# Altium schematic symbol library Modules.SchLib: 34 symbols
Pins are listed as number, name and electrical type; pins without a type are passive.

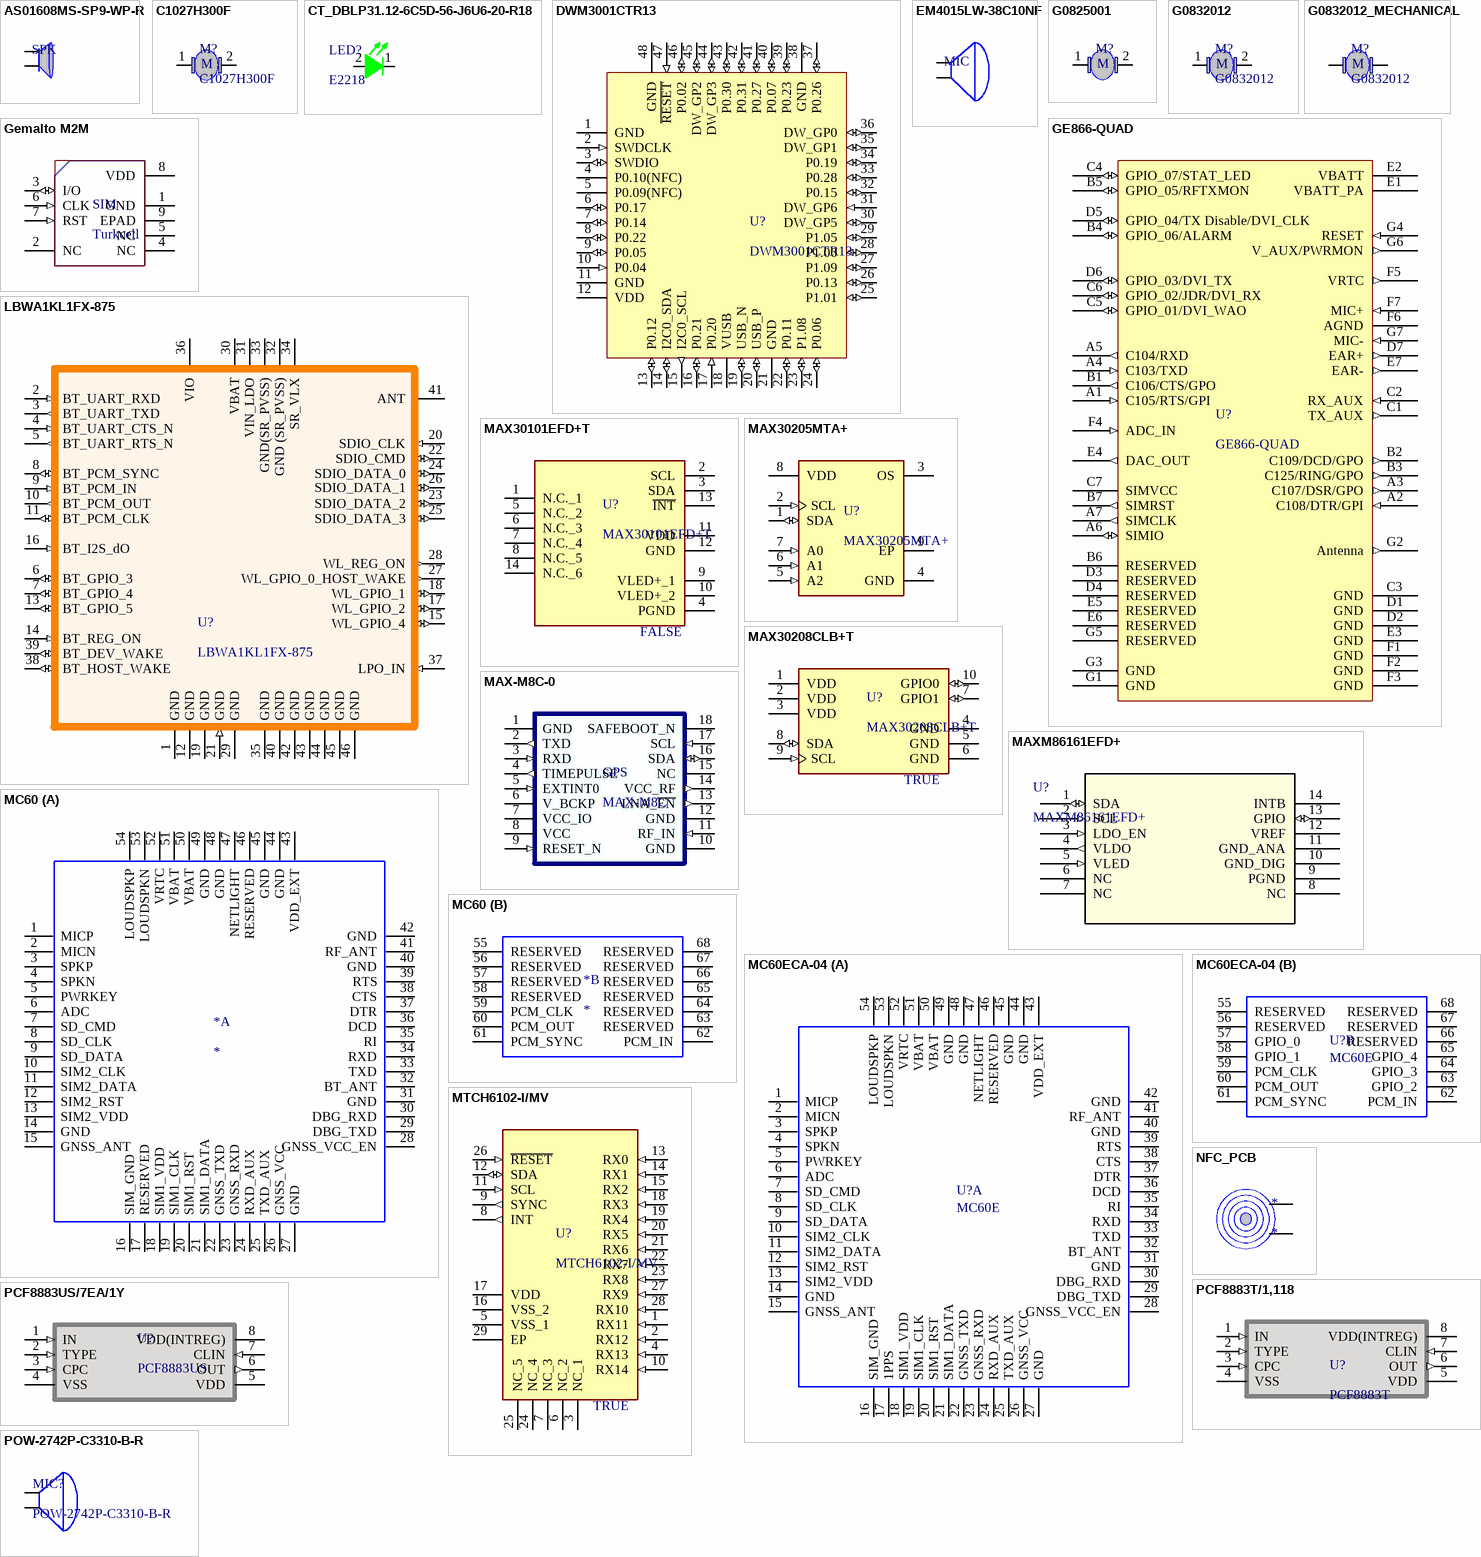
[diagram p0: symbols AS01608MS-SP9-WP-R to POW-2742P-C3310-B-R]

## AS01608MS-SP9-WP-R
designator SPK  (value not drawn)
SPEAKER .7W 8 OHM 89 DB 850 HZ; Manufacturer: PUI Audio, Inc.; Frequency - Self Resonant: 850Hz; Efficiency - dBA: 89.00; Efficiency - Type: Sensitivity; Port Location: Top; Shape: Rectangular; Material - Cone: Polyimide (PI); Material - Magnet: Nd-Fe-B; Ingress Protection: IP67 - Dust Tight, Waterproof; Supplier 1: Digi-Key; Manufacturer Part Number: AS01608MS-SP9-WP-R; RoHS: RoHS Compliant; Category: Audio Products; Stock: 974; Pricing: 1=2.65, 10=2.12, 100=1.749, 500=1.59, 1000=1.378 (USD); Part Status: Active; Technology: Magnetic; Type: Receiver; Efficiency - Testing: -; Ratings: -; Termination: Solder Pads; Size / Dimension: 0.630" L x 0.354" W (16.00mm x 9.00mm); Height - Seated (Max): 0.098" (2.50mm); ComponentLink1URL: http://www.puiaudio.com/pdf/AS01608MS-SP9-WP-R.pdf; ComponentLink1Description: http://www.puiaudio.com/pdf/AS01608MS-SP9-WP-R.pdf; Supplier Part Number 1: 668-1605-ND
footprint AS01608MS-SP9-WP-R
pins: 1 SPK-, 2 SPK+

## C1027H300F
designator M?
footprint C1027H300F (Vibration Motor)
pins: 1 V+, 2 V+
text: M

## CT_DBLP31.12-6C5D-56-J6U6-20-R18
designator LED?, comment E2218
SMD Green 536nm Firefly E2218; Manufacturer_Name: OSRAM; Manufacturer_Part_Number: CT DBLP31.12-6C5D-56-J6U6-20-R18; Manufacturer: Osram Opto; Datasheet Link: https://componentsearchengine.com//CT DBLP31.12-6C5D-56-J6U6-20-R18.pdf; Mouser2 Part Number: 720-CTDBLP31A6091; Mouser2 Price/Stock: https://www.mouser.com/Search/Refine.aspx?Keyword=720-CTDBLP31A6091; Supplier 1: Mouser; Supplier Part Number 1: 720-CTDBLP31A6091; Manufacturer Part Number: CT DBLP31.12-6C5D-56-J6U6-20-R18; RoHS: No; Stock 1: 18870; Pricing 1: 1=0.88000, 10=0.55000, 100=0.37300, 1000=0.29900, 4000=0.28200, 8000=0.27300, 24000=0.26500, 48000=0.25700, 100000=0.25000 (USD)
footprint CTDBLP31126C5D56J6U620R18
pins: 1 K_1, 2 A

## DWM3001CTR13
designator U?
RF Modules 6.5 & 8.0 GHz Ultra-Wideband (UWB) Module with BLE SoC and Motion Sensor; Manufacturer: Qorvo; Interface: 39,40,224,1532Interface; Bandwidth: 500MHz; Current - Receiving: 45mA; Data Rate: 6.8Mbps; Clock Frequency: 8.25GHz; Max Supply Voltage: 3.6V; Min Supply Voltage: 2.5V; Number of GPIO: 28NUMBER; Supplier: Mouser; Supplier Part Number: 772-DWM3001CTR13; Manufacturer Part Number: DWM3001CTR13; RoHS: No; Category: Uncategorized; Stock: 2043; Pricing: 1=49.47, 10=49.47, 50=42.28, 100=35.98, 1000=26.63, 10000=26.63 (USD); Min Operating Temperature: -40°C; Max Operating Temperature: 85°C; Current - Transmitting: 45mA; Height: 3.4mm; Supplier 1: Digikey; Supplier Part Number 1: 2312-DWM3001CTR13CT-ND; Supplier 2: Digikey; Supplier Part Number 2: 2312-DWM3001CTR13DKR-ND; Supplier 3: Mouser; Supplier Part Number 3: 772-DWM3001CTR13
pins: 1 GND (power), 2 SWDCLK (in), 3 SWDIO (io), 4 P0.10(NFC), 5 P0.09(NFC), 6 P0.17 (io), 7 P0.14 (io), 8 P0.22 (io), 9 P0.05 (io), 10 P0.04 (in), 11 GND (power), 12 VDD (power), 13 P0.12 (io), 14 I2C0_SDA (io), 15 I2C0_SCL (out), 16 P0.21 (io), 17 P0.20 (in), 18 VUSB (power), 19 USB_N (io), 20 USB_P (io), 21 GND (power), 22 P0.11 (io), 23 P1.08 (io), 24 P0.06 (io), 25 P1.01 (io), 26 P0.13 (io), 27 P1.09 (io), 28 P1.00 (io), 29 P1.05 (io), 30 DW_GP5 (io), 31 DW_GP6 (in), 32 P0.15 (io), 33 P0.28 (io), 34 P0.19 (io), 35 DW_GP1 (io), 36 DW_GP0 (io), 37 P0.26 (io), 38 GND (power), 39 P0.23 (io), 40 P0.07 (io), 41 P0.27 (io), 42 P0.31 (io), 43 P0.30 (io), 44 DW_GP3 (io), 45 DW_GP2 (io), 46 P0.02 (io), 47 ~{RESET} (in), 48 GND (power)

## EM4015LW-38C10NF
designator MIC  (value not drawn)
MIC CONDO ANALOG OMNI; Manufacturer: Soberton Inc.; Direction: Omnidirectional; Sensitivity: -38dB ±3dB @ 94dB SPL; S/N Ratio: 58dB; Port Location: Top; Ratings: IP67 - Dust Tight, Waterproof; Shape: Circular; Supplier 1: Digi-Key; Manufacturer Part Number: EM4015LW-38C10NF; RoHS: RoHS Compliant; Category: Audio Products; Stock: 195; Pricing: 1=2.14, 10=1.863, 25=1.4492, 50=1.311, 100=1.173, 250=1.13852, 500=1.104, 1000=1.0005, 5000=0.897 (USD); Packaging: Bulk; Part Status: Active; Type: Electret Condenser; Output Type: Analog; Termination: Wire Leads; Size / Dimension: 0.157" Dia (4.00mm); Height (Max): 0.063" (1.60mm); ComponentLink1URL: https://media.digikey.com/pdf/Data%20Sheets/Soberton%20PDFs/EM4015LW-38C10nF_RevA_2017.pdf; ComponentLink1Description: https://media.digikey.com/pdf/Data%20Sheets/Soberton%20PDFs/EM4015LW-38C10nF_RevA_2017.pdf; Supplier Part Number 1: 433-1155-ND
footprint EM4015LW-38C10NF
pins: 1 MIC+, 2 MIC-

## G0825001
designator M?  (value not drawn)
VIBRATION MOTOR COIN, LRA, Z-AXI; Manufacturer: Jinlong Machinery & Electronics, Inc.; Function: Vibration, LRA; Voltage - Rated: 1.8VAC; Supplier 1: Digi-Key; Manufacturer Part Number: G0825001; RoHS: RoHS Compliant; Category: Motors, Solenoids, Driver Boards/Modules; Stock: 445; Pricing: 1=3.17, 5=3.002, 10=2.918, 25=2.8348, 50=2.5846, 100=2.3345, 250=2.25112, 500=2.21778, 1000=2.08438 (USD); Part Status: Active; Type: AC Motor; Motor Type: -; RPM: -; Torque - Rated (oz-in / mNm): -; Power - Rated: -; Encoder Type: -; Size / Dimension: Round - 0.315" Dia (8.00mm); Diameter - Shaft: -; Length - Shaft and Bearing: -; Mounting Hole Spacing: -; Termination Style: Wire Leads; Features: -; Gear Reduction Ratio: -; Torque - Max Momentary (oz-in / mNm): -; Operating Temperature: -20°C ~ 60°C; Approvals: -; Weight: -; ComponentLink1URL: http://www.vibration-motor.com/products/download/G0825001.pdf; ComponentLink1Description: http://www.vibration-motor.com/products/download/G0825001.pdf; Supplier Part Number 1: 1670-1051-ND
footprint G0825001 (Vibration Motor)
pins: 1 V+, 2 V+
text: M

## G0832012
designator M?
VIBRATION MOTOR 1.8V; Manufacturer: Jinlong Machinery & Electronics, Inc.; Function: Vibration, LRA; Voltage - Rated: 1.8VAC; Supplier 1: Digi-Key; Manufacturer Part Number: G0832012; RoHS: RoHS Compliant; Category: Motors, Solenoids, Driver Boards/Modules; Stock: 810; Pricing: 1=3.17, 5=3.002, 10=2.918, 25=2.8348, 50=2.5846, 100=2.3345, 250=2.25112, 500=2.21778, 1000=2.08438 (USD); Part Status: Active; Type: AC Motor; Motor Type: -; RPM: -; Torque - Rated (oz-in / mNm): -; Power - Rated: -; Encoder Type: -; Size / Dimension: Round - 0.315" Dia (8.00mm); Diameter - Shaft: -; Length - Shaft and Bearing: -; Mounting Hole Spacing: -; Termination Style: Wire Leads; Features: -; Gear Reduction Ratio: -; Torque - Max Momentary (oz-in / mNm): -; Operating Temperature: -20°C ~ 60°C; Approvals: -; Weight: -; ComponentLink1URL: http://www.vibration-motor.com/products/download/G0832012.pdf; ComponentLink1Description: http://www.vibration-motor.com/products/download/G0832012.pdf; Supplier Part Number 1: 1670-1034-ND
footprint G0832012
pins: 1 V+, 2 V+
text: M

## G0832012_MECHANICAL
designator M?, comment G0832012
VIBRATION MOTOR 1.8V; Manufacturer: Jinlong Machinery & Electronics, Inc.; Function: Vibration, LRA; Voltage - Rated: 1.8VAC; Supplier 1: Digi-Key; Manufacturer Part Number: G0832012; RoHS: RoHS Compliant; Category: Motors, Solenoids, Driver Boards/Modules; Stock: 810; Pricing: 1=3.17, 5=3.002, 10=2.918, 25=2.8348, 50=2.5846, 100=2.3345, 250=2.25112, 500=2.21778, 1000=2.08438 (USD); Part Status: Active; Type: AC Motor; Motor Type: -; RPM: -; Torque - Rated (oz-in / mNm): -; Power - Rated: -; Encoder Type: -; Size / Dimension: Round - 0.315" Dia (8.00mm); Diameter - Shaft: -; Length - Shaft and Bearing: -; Mounting Hole Spacing: -; Termination Style: Wire Leads; Features: -; Gear Reduction Ratio: -; Torque - Max Momentary (oz-in / mNm): -; Operating Temperature: -20°C ~ 60°C; Approvals: -; Weight: -; ComponentLink1URL: http://www.vibration-motor.com/products/download/G0832012.pdf; ComponentLink1Description: http://www.vibration-motor.com/products/download/G0832012.pdf; Supplier Part Number 1: 1670-1034-ND
footprint G0832012_Mechanical
text: M

## GE866-QUAD
designator U?
2G GPRS module; Note: nonavailable for supplier; ComponentLink1Description: Datasheet; ComponentLink1URL: http://www4.telit.com/module/infopool/download.php?id=6831; Supplier1: LTE Elektronik Sanayi ve Ticaret Limited Þirketi; Supplierl1inkURL: http://www.lte.com.tr; Value: GE866-QUAD
footprint BGA4C180P7X7_1520X1920X210 (BGA, 4-Leads, Body 13,20x17,20mmx2,10mm, Pitch 1,80mm)
pins: A1 C105/RTS/GPI (in), A2 C108/DTR/GPI (in), A3 C107/DSR/GPO (out), A4 C103/TXD (in) "Serial Data input from DTE", A5 C104/RXD (out) "Serial data output to DTE", A6 SIMIO (io) "4.7K Pull up", A7 SIMCLK (out), B1 C106/CTS/GPO (out), B2 C109/DCD/GPO (out), B3 C125/RING/GPO (out), B4 GPIO_06/ALARM (io), B5 GPIO_05/RFTXMON (io), B6 RESERVED, B7 SIMRST (out), C1 TX_AUX (out), C2 RX_AUX (in), C3 GND (power), C4 GPIO_07/STAT_LED (io), C5 GPIO_01/DVI_WAO (io), C6 GPIO_02/JDR/DVI_RX (io), C7 SIMVCC (power), D1 GND (power), D2 GND (power), D3 RESERVED, D4 RESERVED, D5 GPIO_04/TX Disable/DVI_CLK (io), D6 GPIO_03/DVI_TX (io), D7 EAR+ (out), E1 VBATT_PA (power) "Main power supply (Radio PA)", E2 VBATT (power) "Main power supply(Baseband)", E3 GND (power), E4 DAC_OUT (out), E5 RESERVED, E6 RESERVED, E7 EAR- (out), F1 GND (power), F2 GND (power), F3 GND (power), F4 ADC_IN (in), F5 VRTC (out), F6 AGND (power), F7 MIC+ (in), G1 GND (power), G2 Antenna (out) "Antenna output- 50ohm", G3 GND (power), G4 RESET (in), G5 RESERVED, G6 V_AUX/PWRMON (out) "2.8V stabilized output lmax=100mA/Power ON monitor", G7 MIC- (in)

## Gemalto M2M
designator SIM, comment Turkcell
footprint SON127P600X80_HS-9N (SON, 8-Leads, Body 5.00x6.00mm, Pitch 1.27mm, Thermal Pad 4.30x4.22mm, IPC Medium Density)
pins: 1 GND (power), 2 NC, 3 I/O (io), 4 NC, 5 NC, 6 CLK (in), 7 RST (in), 8 VDD (power), 9 EPAD

## LBWA1KL1FX-875
designator U?
WiFi / 802.11 Modules b/g/n Ref Certified Module for iMX6; Manufacturer: Murata Electronics; Data Rate: 11 Mb/s, 54 Mb/s, 65 Mb/s; Frequency: 2.4 GHz; Output Power: 17 dBm; Interface Type: SDIO; Antenna Connector Type: External; Modulation Technique: CCK, DSSS, OFDM; Operating Supply Voltage: 3.6 V; Protocol Supported: 802.11 b/g/n; Supply Current Receiving: 60 mA; Supply Current Transmitting: 370 mA; Product Status: New Product; Supplier 1: Mouser; Supplier Part Number 1: 81-LBWA1KL1FX-875; Manufacturer Part Number: LBWA1KL1FX-875; RoHS: RoHS Compliant; Category: WiFi / 802.11 Modules; Stock 1: 997; Pricing 1: 1=9.05, 10=8.81, 25=8.14, 100=7.46, 250=7.00, 500=6.01, 1000=5.87, 2000=5.80 (EUR); Dimensions: 6.95 mm x 5.15 mm x 1.1 mm; Packaging: Reel; Series: LBWA1; Brand: Murata Electronics; Maximum Operating Temperature: + 70 C; Minimum Operating Temperature: - 30 C; Standard Pack Qty: 1000; RoHS - Mouser: Y; Minimum Order Quantity: 1; Reeling: True; ComponentLink1URL: http://www.mouser.com/ds/2/281/murata_nxp_imx_modules-933436.pdf; ComponentLink1Description: http://www.mouser.com/ds/2/281/murata_nxp_imx_modules-933436.pdf
footprint LCCS45P695X515X110-42N (LCC, 42-Pins, Body 6.95x5.15mmx1.10mm, Pitch 0.45mm, IPC Medium Density)
pins: 1 GND (power), 2 BT_UART_RXD (in), 3 BT_UART_TXD (out), 4 BT_UART_CTS_N (in), 5 BT_UART_RTS_N (out), 6 BT_GPIO_3 (io), 7 BT_GPIO_4 (io), 8 BT_PCM_SYNC (io), 9 BT_PCM_IN (in), 10 BT_PCM_OUT (out), 11 BT_PCM_CLK (io), 12 GND (power), 13 BT_GPIO_5 (io), 14 BT_REG_ON (in), 15 WL_GPIO_4 (io), 16 BT_I2S_dO (in), 17 WL_GPIO_2 (io), 18 WL_GPIO_1 (io), 19 GND (power), 20 SDIO_CLK (in), 21 GND (in), 22 SDIO_CMD (io), 23 SDIO_DATA_2 (io), 24 SDIO_DATA_0 (io), 25 SDIO_DATA_3 (io), 26 SDIO_DATA_1 (io), 27 WL_GPIO_0_HOST_WAKE (out), 28 WL_REG_ON (out), 29 GND (power), 30 VBAT (power), 31 VIN_LDO (power), 32 GND (SR_PVSS) (power), 33 GND(SR_PVSS) (power), 34 SR_VLX (power), 35 GND (power), 36 VIO (power), 37 LPO_IN (in), 38 BT_HOST_WAKE (io), 39 BT_DEV_WAKE (io), 40 GND (power), 41 ANT, 42 GND (power), 43 GND (power), 44 GND (power), 45 GND (power), 46 GND (power)

## MAX30101EFD+T
designator U?  Checked: FALSE
High-Sensitivity Pulse Oximeter and Heart-Rate Sensor for Fitness & Healthcare; Manufacturer: Maxim; Output Type: I2C; Supplier: Digikey; Supplier Part Number: MAX30101EFD+TCT-ND; Manufacturer Part Number: MAX30101EFD+T; RoHS: Yes; Category: Sensors; Stock: 1955; Pricing: 1=11.32, 10=10.228, 25=9.752, 100=8.4676, 250=8.08708, 500=7.3735, 1000=6.42208 (USD); Min Operating Temperature: -40°C; Max Operating Temperature: 85°C; Series: -; Packaging: Cut Tape; RoHS Compliant: Yes; ComponentLink1URL: https://datasheets.maximintegrated.com/en/ds/MAX30101.pdf?src-supplier=Digikey; ComponentLink1Description: https://datasheets.maximintegrated.com/en/ds/MAX30101.pdf?src-supplier=Digikey; Supplier 1: Mouser; Supplier Part Number 1: 700-MAX30101EFD+T; Supplier 2: Digikey; Supplier Part Number 2: MAX30101EFD+TCT-ND; Supplier 3: Digikey; Supplier Part Number 3: MAX30101EFD+TDKR-ND
footprint 14-LEAD-OESIP
pins: 1 N.C._1, 2 SCL, 3 SDA, 4 PGND, 5 N.C._2, 6 N.C._3, 7 N.C._4, 8 N.C._5, 9 VLED+_1, 10 VLED+_2, 11 VDD, 12 GND, 13 ~{INT}, 14 N.C._6

## MAX30205MTA+
designator U?
MAXIM INTEGRATED PRODUCTS - MAX30205MTA+ - Sensore di Temperatura IC, Digitale, ± 0,1°C, 0 °C, 50 °C, TDFN, 8 Pin; Min Supply Voltage: 2.7V; Max Supply Voltage: 3.3V; Supplier 1: Digi-Key; Manufacturer: Maxim; Manufacturer Part Number: MAX30205MTA+; RoHS: Yes; Category: Temperature and Humidity Sensors; Stock 1: 3167; Pricing 1: 1=2.51000, 10=2.25600, 25=2.13240, 100=1.84800, 250=1.75324, 500=1.57318, 1000=1.32678, 2500=1.29519 (USD); Number of Pins: 8; Min Operating Temperature: 0°C; REACH SVHC: No SVHC; ComponentLink1URL: http://www.farnell.com/datasheets/2161147.pdf?src-supplier=Farnell; ComponentLink1Description: http://www.farnell.com/datasheets/2161147.pdf?src-supplier=Farnell; ComponentLink2URL: https://datasheets.maximintegrated.com/en/ds/MAX30205.pdf?src-supplier=Digi-Key; ComponentLink2Description: https://datasheets.maximintegrated.com/en/ds/MAX30205.pdf?src-supplier=Digi-Key; ComponentLink3URL: http://www.farnell.com/datasheets/2161147.pdf?src-supplier=Element14; ComponentLink3Description: http://www.farnell.com/datasheets/2161147.pdf?src-supplier=Element14; Supplier Part Number 1: MAX30205MTA+-ND
footprint SON65P300X80_HS-9N (SON, 8-Leads, Body 3.00x3.00mm, Pitch 0.65mm, Thermal Pad 1.50x1.69mm, IPC Medium Density)
pins: 1 SDA (io), 2 SCL (in), 3 OS (oc), 4 GND (power), 5 A2 (in), 6 A1 (in), 7 A0 (in), 8 VDD (power), 9 EP (power)

## MAX30208CLB+T
designator U?  Checked: TRUE
I2C Digital Temperature Sensor Serial I2C 10-Pin Thin LGA T/R; Manufacturer: Maxim; Supplier: Mouser; Supplier Part Number: 700-MAX30208CLB+T; Manufacturer Part Number: MAX30208CLB+T; RoHS: Yes; Category: Temperature and Humidity Sensors; Stock: 16152; Pricing: 1=3.7, 10=2.9, 50=2.9, 100=2.69, 1000=2.11, 10000=1.97 (USD); Supplier 1: Mouser; Supplier Part Number 1: 700-MAX30208CLB+T; Supplier 2: Digikey; Supplier Part Number 2: 175-MAX30208CLB+TDKR-ND; Supplier 3: Digikey; Supplier Part Number 3: 175-MAX30208CLB+TTR-ND
footprint FP-L1022-2-MFG
pins: 1 VDD (power), 2 VDD (power), 3 VDD (power), 4 GND (power), 5 GND (power), 6 GND (power), 7 GPIO1 (io), 8 SDA (io), 9 SCL (in), 10 GPIO0 (io)

## MAX-M8C-0
designator GPS, comment MAX-M8C
IC RECEIVER GPS/GNSS 18LCC; Manufacturer: U-Blox America Inc.; Manufacturer Part Number: MAX-M8C-0; Frequency: 1.575GHz; Sensitivity: -167dBm; Modulation or Protocol: BeiDou, Galileo, GLONASS, GNSS, GPS; Current - Receiving: 23mA; Data Interface: I²C, UART; Voltage - Supply: 1.65 V ~ 3.6 V; Supplier 1: Digi-Key; Supplier Part Number 1: 672-1002-6-ND; RoHS: RoHS Compliant; Category: RF/IF and RFID; Stock 1: 1098; Pricing 1: 1=23.5, 10=20.19, 50=13.16, 100=10.0129 (USD); Packaging: Digi-Reel®; Part Status: Active; Data Rate (Max): -; Applications: General Purpose; Memory Size: -; Antenna Connector: -; Features: -; Operating Temperature: -40°C ~ 85°C; Package / Case: 18-SMD Module; Supplier Device Package: -; ComponentLink1URL: https://www.u-blox.com/sites/default/files/MAX-M8-FW3_DataSheet_(UBX-15031506).pdf; ComponentLink1Description: https://www.u-blox.com/sites/default/files/MAX-M8-FW3_DataSheet_(UBX-15031506).pdf
footprint LCCS110P1035X970X270-18N (LCC, 18-Pins, Body 10.35x9.70mmx2.70mm, Pitch 1.10mm, IPC Medium Density)
pins: 1 GND, 2 TXD (out), 3 RXD (in), 4 TIMEPULSE (out), 5 EXTINT0 (in), 6 V_BCKP, 7 VCC_IO, 8 VCC, 9 RESET_N (in), 10 GND, 11 RF_IN (in), 12 GND, 13 LNA_~{EN} (out), 14 VCC_RF (out), 15 NC, 16 SDA (io), 17 SCL (in), 18 SAFEBOOT_N

## MAXM86161EFD+
designator U?
Biometric Sensors Optical Bio Sensor Module Optimized for Wearables; Manufacturer: Maxim; Vendor: Maxim Integrated Products; Built_By: EMA_Rebekah; SourceLibrary: Maxim_2019-09-13; Manufacturer_Part_Number: MAXM86161EFD+; Copyright: Copyright (C) 2018 Accelerated Designs. All rights reserved; RefDes: RefDes; Type: DEV; Supplier 1: Digi-Key; Supplier Part Number 1: MAXM86161EFD+-ND; Manufacturer Part Number: MAXM86161EFD+; RoHS: No; Stock 1: 419; Pricing 1: 1=9.44000, 10=8.53200, 25=8.13480, 100=7.06350, 500=6.15078, 1000=5.35714, 5000=4.96031 (USD)
footprint 21-100309A_MXM
pins: 1 SDA (io), 2 SCL (in), 3 LDO_EN (in), 4 VLDO (out), 5 VLED (in), 6 NC, 7 NC, 8 NC, 9 PGND, 10 GND_DIG, 11 GND_ANA, 12 VREF, 13 GPIO (io), 14 INTB

## MC60
designator *
Manufacturer: Quectel Wireless Solutions; Manufacturer Part Number: MC60; .CheckedFootprint: Yes; .CheckedSchematic: Yes
footprint MC60
part A pins: 1 MICP, 2 MICN, 3 SPKP, 4 SPKN, 5 PWRKEY, 6 ADC, 7 SD_CMD, 8 SD_CLK, 9 SD_DATA, 10 SIM2_CLK, 11 SIM2_DATA, 12 SIM2_RST, 13 SIM2_VDD, 14 GND, 15 GNSS_ANT, 16 SIM_GND, 17 RESERVED, 18 SIM1_VDD, 19 SIM1_CLK, 20 SIM1_RST, 21 SIM1_DATA, 22 GNSS_TXD, 23 GNSS_RXD, 24 RXD_AUX, 25 TXD_AUX, 26 GNSS_VCC, 27 GND, 28 GNSS_VCC_EN, 29 DBG_TXD, 30 DBG_RXD, 31 GND, 32 BT_ANT, 33 TXD, 34 RXD, 35 RI, 36 DCD, 37 DTR, 38 CTS, 39 RTS, 40 GND, 41 RF_ANT, 42 GND, 43 VDD_EXT, 44 GND, 45 GND, 46 RESERVED, 47 NETLIGHT, 48 GND, 49 GND, 50 VBAT, 51 VBAT, 52 VRTC, 53 LOUDSPKN, 54 LOUDSPKP
part B pins: 55 RESERVED, 56 RESERVED, 57 RESERVED, 58 RESERVED, 59 PCM_CLK, 60 PCM_OUT, 61 PCM_SYNC, 62 PCM_IN, 63 RESERVED, 64 RESERVED, 65 RESERVED, 66 RESERVED, 67 RESERVED, 68 RESERVED

## MC60ECA-04
designator U?, comment MC60E
Manufacturer: Quectel Wireless Solutions; Manufacturer Part Number: MC60ECA-04-BLE; .CheckedSchematic: Yes; Supplier 1: Avnet; Stock 1: 0; Supplier Part Number 1: MC60ECA-04-BLE; .CheckedFootprint: Yes
footprint MC60E
part A pins: 1 MICP, 2 MICN, 3 SPKP, 4 SPKN, 5 PWRKEY, 6 ADC, 7 SD_CMD, 8 SD_CLK, 9 SD_DATA, 10 SIM2_CLK, 11 SIM2_DATA, 12 SIM2_RST, 13 SIM2_VDD, 14 GND, 15 GNSS_ANT, 16 SIM_GND, 17 1PPS, 18 SIM1_VDD, 19 SIM1_CLK, 20 SIM1_RST, 21 SIM1_DATA, 22 GNSS_TXD, 23 GNSS_RXD, 24 RXD_AUX, 25 TXD_AUX, 26 GNSS_VCC, 27 GND, 28 GNSS_VCC_EN, 29 DBG_TXD, 30 DBG_RXD, 31 GND, 32 BT_ANT, 33 TXD, 34 RXD, 35 RI, 36 DCD, 37 DTR, 38 CTS, 39 RTS, 40 GND, 41 RF_ANT, 42 GND, 43 VDD_EXT, 44 GND, 45 GND, 46 RESERVED, 47 NETLIGHT, 48 GND, 49 GND, 50 VBAT, 51 VBAT, 52 VRTC, 53 LOUDSPKN, 54 LOUDSPKP
part B pins: 55 RESERVED, 56 RESERVED, 57 GPIO_0, 58 GPIO_1, 59 PCM_CLK, 60 PCM_OUT, 61 PCM_SYNC, 62 PCM_IN, 63 GPIO_2, 64 GPIO_3, 65 GPIO_4, 66 RESERVED, 67 RESERVED, 68 RESERVED

## MTCH6102-I/MV
designator U?  Checked: TRUE
Capacitive Touch Screen Automotive 28-Pin UQFN EP Tube; Manufacturer: Microchip; Supplier: Digikey; Supplier Part Number: MTCH6102-I/MV-ND; Manufacturer Part Number: MTCH6102-I/MV; RoHS: Yes; Category: Touch Screen Controllers; Stock: 496; Pricing: 1=1.95, 25=1.8, 100=1.62 (USD); ComponentLink1URL: https://datasheet.ciiva.com/29355/filehandler-aspxddocname-en568912-29355091.pdf?src-supplier=Digikey; ComponentLink1Description: https://datasheet.ciiva.com/29355/filehandler-aspxddocname-en568912-29355091.pdf?src-supplier=Digikey; ComponentLink2URL: https://datasheet.ciiva.com/48495/40001750a-48495606.pdf?src-supplier=Avnet; ComponentLink2Description: https://datasheet.ciiva.com/48495/40001750a-48495606.pdf?src-supplier=Avnet; ComponentLink3URL: https://datasheet.ciiva.com/46405/1810724-46405963.pdf?src-supplier=Element14; ComponentLink3Description: https://datasheet.ciiva.com/46405/1810724-46405963.pdf?src-supplier=Element14; Supplier 1: Digikey; Supplier Part Number 1: MTCH6102-I/MV-ND; Supplier 2: Mouser; Supplier Part Number 2: 579-MTCH6102-I/MV; Supplier 3: Arrow Electronics; Supplier Part Number 3: MTCH6102-I/MV
footprint QFN40P400X400X55_HS-29N (QFN, 28-Leads, Body 4.00x4.00mm, Pitch 0.40mm, Thermal Pad 2.35x2.35mm, IPC Medium Density)
pins: 1 RX11 (in), 2 RX12 (in), 3 NC_1, 4 RX13 (in), 5 VSS_1 (power), 6 NC_2, 7 NC_3, 8 INT (out), 9 SYNC (out), 10 RX14 (in), 11 SCL (in), 12 SDA (io), 13 RX0 (in), 14 RX1 (in), 15 RX2 (in), 16 VSS_2 (power), 17 VDD (power), 18 RX3 (in), 19 RX4 (in), 20 RX5 (in), 21 RX6 (in), 22 RX7 (in), 23 RX8 (in), 24 NC_4, 25 NC_5, 26 ~{RESET} (in), 27 RX9 (in), 28 RX10 (in), 29 EP (power)

## NFC_PCB
designator *
footprint NFC Coil
pins: 1 T1 (power), 2 T2 (power)

## PCF8883T/1,118
designator U?, comment PCF8883T
SENSOR IC CAPACITIVE PROX 8SOIC; Manufacturer: NXP USA Inc.; Manufacturer Part Number: PCF8883T/1,118; Proximity Detection: Yes; Number of Inputs: 1; Interface: Open Drain; Resolution: 14 b; Voltage - Supply: 3 V ~ 9 V; Current - Supply: 3µA; Supplier 1: Digi-Key; RoHS: RoHS Compliant; Category: Sensors, Transducers; Stock 1: 6759; Pricing 1: 1=1.91, 5=1.81, 10=1.551, 25=1.2408, 50=1.1374, 100=1.034, 500=0.90476, 1000=0.80135 (USD); Packaging: Digi-Reel®; Part Status: Active; Type: Buttons; LED Driver Channels: -; Operating Temperature: -40°C ~ 85°C; Package / Case: 8-SOIC (0.154", 3.90mm Width); ComponentLink1URL: http://www.nxp.com/documents/data_sheet/PCF8883.pdf; ComponentLink1Description: http://www.nxp.com/documents/data_sheet/PCF8883.pdf; Supplier Part Number 1: 568-4933-6-ND
footprint SOIC127P600X173-8N (SOIC, 8-Leads, Body 4.90x3.91mm, Pitch 1.27mm, IPC Medium Density)
pins: 1 IN (in), 2 TYPE (in), 3 CPC (in), 4 VSS (power), 5 VDD (power), 6 OUT (out), 7 CLIN (in), 8 VDD(INTREG) (power)

## PCF8883US/7EA/1Y
designator U?, comment PCF8883US
IC PROXIMITY SWITCH UNCASED; Manufacturer: NXP USA Inc.; Manufacturer Part Number: PCF8883US/7EA/1Y; Proximity Detection: Yes; Number of Inputs: 1; Interface: Open Drain; Resolution: 14 b; Voltage - Supply: 3 V ~ 9 V; Current - Supply: 3µA; Supplier 1: Digi-Key; RoHS: RoHS Compliant; Category: Sensors, Transducers; Stock 1: 3743; Pricing 1: 1=1.91, 5=1.81, 10=1.551, 25=1.2408, 50=1.1374, 100=1.034, 500=0.90476 (USD); Packaging: Digi-Reel®; Part Status: Active; Type: Buttons; LED Driver Channels: -; Operating Temperature: -40°C ~ 85°C; Package / Case: 8-UFBGA, WLCSP; Supplier Device Package: 8-WLCSP (1.16x0.86); ComponentLink1URL: http://www.nxp.com/documents/data_sheet/PCF8883.pdf; ComponentLink1Description: http://www.nxp.com/documents/data_sheet/PCF8883.pdf; Supplier Part Number 1: 568-11632-6-ND
footprint BGA8C40P3X3_116X86X55 (BGA, 8-Leads, Body 1.16x0.86mmx0.55mm, Pitch 0.40mm)
pins: 1 IN (in), 2 TYPE (in), 3 CPC (in), 4 VSS (power), 5 VDD (power), 6 OUT (out), 7 CLIN (in), 8 VDD(INTREG) (power)

## POW-2742P-C3310-B-R
designator MIC?
Mic Omni-Directional 2200Ohm -42±3dB 10Vdc Round Pin; Manufacturer: Projects Unlimited; Shape: Circular,Round; Direction: Omnidirectional; Operating Supply Current: 500uA; Impedance: 2.2kR; Voltage Rating: 10V; Nominal Supply Voltage (DC): 2V; Output Type: Analog; Resistance: 2200R; Supplier 1: Digi-Key; Supplier Part Number 1: 668-1424-ND; Manufacturer Part Number: POW-2742P-C3310-B-R; RoHS: Yes; Category: Microphones; Stock 1: 5227; Pricing 1: 1=2.44000, 10=2.02600, 25=1.87120, 50=1.75860, 100=1.65040, 500=1.41520, 1000=1.37800 (USD); Termination: PC Pins; Packaging: Bulk; Package Quantity: 100; Max Supply Voltage (DC): 10V; Diameter: 6mm; Length: 6mm; Width: 6mm; Height: 2.9mm; Depth: 2.7mm; ComponentLink1URL: https://datasheet.ciiva.com/6567/pow-2742p-c3310-b-r-6567282.pdf?src-supplier=Digi-Key; ComponentLink1Description: https://datasheet.ciiva.com/6567/pow-2742p-c3310-b-r-6567282.pdf?src-supplier=Digi-Key; ComponentLink2URL: https://datasheet.ciiva.com/4624/pow-2742p-c3310-b-r-35795-4624531.pdf?src-supplier=Mouser; ComponentLink2Description: https://datasheet.ciiva.com/4624/pow-2742p-c3310-b-r-35795-4624531.pdf?src-supplier=Mouser; ComponentLink3URL: https://datasheet.ciiva.com/8113/pow-2742p-c3310-b-r-8113210.pdf?src-supplier=Avnet; ComponentLink3Description: https://datasheet.ciiva.com/8113/pow-2742p-c3310-b-r-8113210.pdf?src-supplier=Avnet; ComponentLink4URL: https://datasheet.ciiva.com/29566/pow-2742p-c3310-b-r-29566847.pdf?src-supplier=Digi-Key; ComponentLink4Description: https://datasheet.ciiva.com/29566/pow-2742p-c3310-b-r-29566847.pdf?src-supplier=Digi-Key
footprint POW-2742P-C3310-B-R
pins: 1 MIC+, 2 MIC-

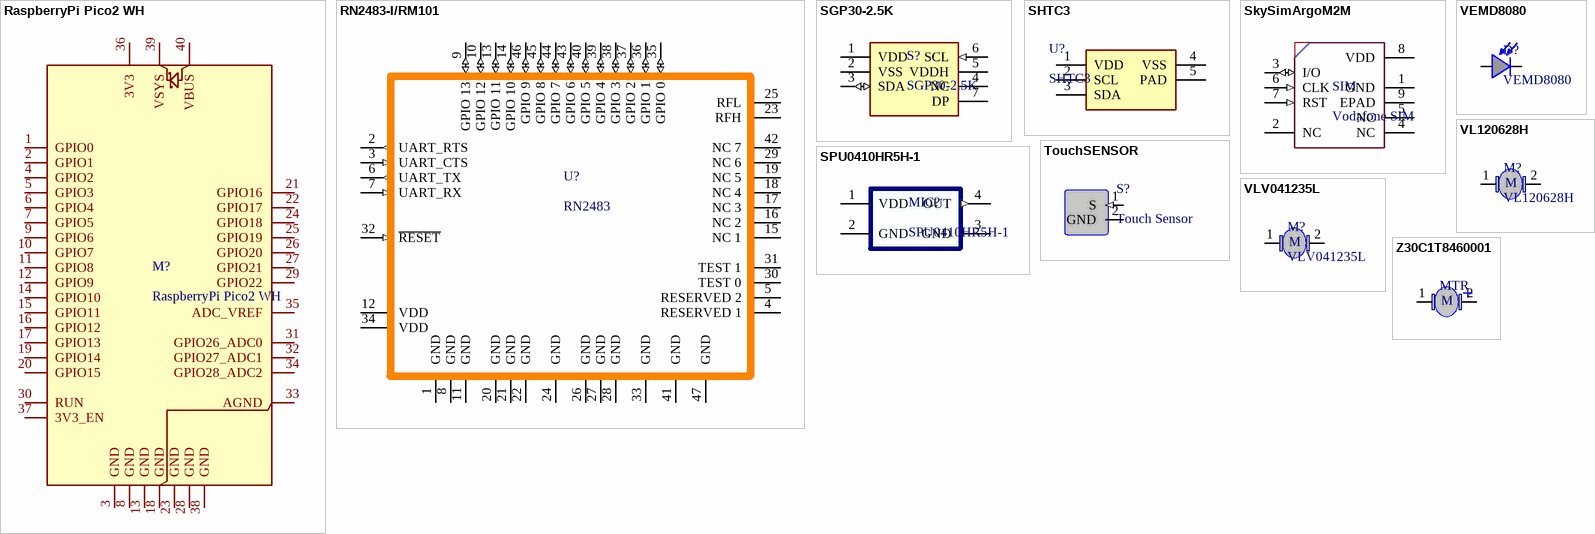
[diagram p1: symbols RaspberryPi Pico2 WH to Z30C1T8460001]

## RaspberryPi Pico2 WH
designator M?
Raspberry Pi Pico 2 W RP2350 with Wireless WiFi and BLE; Manufacturer: Olimex; Manufacturer Part Number: RP2350-PICO2-W; Supplier: DigiKey; Supplier Part Number: 1188-RP2350-PICO2-W-ND; Description: Raspberry Pi Pico 2 W RP2350; Category: NFC / RFID Components; Pricing: 1=10.19 (USD)
footprint RaspberryPi Pico2 WH
pins: 1 GPIO0, 2 GPIO1, 3 GND, 4 GPIO2, 5 GPIO3, 6 GPIO4, 7 GPIO5, 8 GND, 9 GPIO6, 10 GPIO7, 11 GPIO8, 12 GPIO9, 13 GND, 14 GPIO10, 15 GPIO11, 16 GPIO12, 17 GPIO13, 18 GND, 19 GPIO14, 20 GPIO15, 21 GPIO16, 22 GPIO17, 23 GND, 24 GPIO18, 25 GPIO19, 26 GPIO20, 27 GPIO21, 28 GND, 29 GPIO22, 30 RUN, 31 GPIO26_ADC0, 32 GPIO27_ADC1, 33 AGND, 34 GPIO28_ADC2, 35 ADC_VREF, 36 3V3, 37 3V3_EN, 38 GND, 39 VSYS, 40 VBUS

## RN2483-I/RM101
designator U?, comment RN2483
MODULE LORA LONG RANGE; Manufacturer: Microchip Technology; Manufacturer Part Number: RN2483-I/RM101; RF Family/Standard: General ISM < 1GHz; Protocol: LoRa™; Frequency: 433MHz, 868MHz; Data Rate: 300kbps; Power - Output: 14dBm; Sensitivity: -146dBm; Serial Interfaces: I²C, SPI, UART; Antenna Type: Not Included; Voltage - Supply: 2.1 V ~ 3.6 V; Current - Receiving: 14.3mA; Current - Transmitting: 39mA; Supplier 1: Digi-Key; Supplier Part Number 1: RN2483-I/RM101-ND; RoHS: RoHS Compliant; Category: RF/IF and RFID; Stock 1: 1367; Pricing 1: 1=12.83, 25=11.7576, 100=11.3936 (EUR); Packaging: Tray; Part Status: Active; Modulation: -; Memory Size: -; Mounting Type: Surface Mount; Operating Temperature: -40°C ~ 85°C; Package / Case: Module; ComponentLink1URL: http://www.microchip.com/mymicrochip/filehandler.aspx?ddocname=en574289; ComponentLink1Description: http://www.microchip.com/mymicrochip/filehandler.aspx?ddocname=en574289
footprint QFN127P1778X2667X334-54N (QFN, 54-Leads, Body 17.78x26.67mm, Pitch 1.27mm, IPC Medium Density)
pins: 1 GND (power), 2 UART_RTS (out), 3 UART_CTS (in), 4 RESERVED 1, 5 RESERVED 2, 6 UART_TX (out), 7 UART_RX (in), 8 GND  (power), 9 GPIO 13 (io), 10 GPIO 12 (io), 11 GND (power), 12 VDD (power), 13 GPIO 11 (io), 14 GPIO 10 (io), 15 NC 1, 16 NC 2, 17 NC 3, 18 NC 4, 19 NC 5, 20 GND (power), 21 GND (power), 22 GND (power), 23 RFH, 24 GND (power), 25 RFL, 26 GND (power), 27 GND (power), 28 GND (power), 29 NC 6, 30 TEST 0, 31 TEST 1, 32 ~{RESET} (in), 33 GND (power), 34 VDD (power), 35 GPIO 0 (io), 36 GPIO 1 (io), 37 GPIO 2 (io), 38 GPIO 3 (io), 39 GPIO 4 (io), 40 GPIO 5 (io), 41 GND (power), 42 NC 7, 43 GPIO 6 (io), 44 GPIO 7 (io), 45 GPIO 8 (io), 46 GPIO 9 (io), 47 GND (power)

## SGP30-2.5K
designator S?
Manufacturer: Sensirion; Supplier 1: Digi-Key; Supplier Part Number 1: 1649-1084-6-ND; Manufacturer Part Number: SGP30-2.5K; Stock 1: 2430; Pricing 1: 1=13.57, 5=11.908, 10=10.717, 25=9.526, 50=8.8116, 100=7.6208, 500=7.1445, 1000=6.6682 (USD)
footprint SON80P250X90_HS-7N (SON, 6-Leads, Body 2.45x2.45mm, Pitch 0.80mm, Thermal Pad 1.70x1.25mm, IPC Medium Density)
pins: 1 VDD (power), 2 VSS (power), 3 SDA (io), 4 NC, 5 VDDH (power), 6 SCL (in), 7 DP

## SHTC3
designator U?
Humidity and Temperature Sensor IC; Manufacturer_Name: Sensirion; Datasheet Link: https://www.glynshop.com/erp/owweb/Daten/Datenblaetter/Sensirion/SHTC3.pdf; Height: 0mm; Manufacturer_Part_Number: SHTC3; Mouser Part Number: 403-SHTC3; Mouser Price/Stock: https://www.mouser.com/Search/Refine.aspx?Keyword=403-SHTC3; Supplier 1: Digi-Key; Supplier Part Number 1: 1649-1100-1-ND; Manufacturer: Sensirion; Manufacturer Part Number: SHTC3; Stock 1: 1464; Pricing 1: 1 = 4.00000, 5 = 3.53200, 10 = 3.11900, 25 = 2.53040, 50 = 2.23640, 100 = 2.17750, 500 = 1.82436, 1000 = 1.70665 (USD); RoHS: No; ComponentLink1URL: https://media.digikey.com/pdf/Data%20Sheets/Sensirion%20PDFs/HT_DS_SHTC3_D1.pdf?src-supplier=Digi-Key; ComponentLink1Description: https://media.digikey.com/pdf/Data%20Sheets/Sensirion%20PDFs/HT_DS_SHTC3_D1.pdf?src-supplier=Digi-Key
footprint SHTC3
pins: 1 VDD, 2 SCL, 3 SDA, 4 VSS, 5 PAD

## SkySimArgoM2M
designator SIM, comment Vodafone SIM
Manufacturer: Vodafone
footprint SON127P600X80_HS-9N (SON, 8-Leads, Body 5.00x6.00mm, Pitch 1.27mm, Thermal Pad 4.30x4.22mm, IPC Medium Density)
pins: 1 GND (power), 2 NC, 3 I/O (io), 4 NC, 5 NC, 6 CLK (in), 7 RST (in), 8 VDD (power), 9 EPAD

## SPU0410HR5H-1
designator MIC?
MIC MEMS ANALOG OMNI; Manufacturer: Knowles; Direction: Omnidirectional; Frequency Range: 100Hz ~ 10kHz; Sensitivity: -42dB ±1dB @ 94dB SPL; S/N Ratio: 59dB; Impedance: 400 Ohm; Voltage Range: 1.5 ~ 3.6V; Current - Supply: 160µA; Port Location: Top; Seal Rating: None; Shape: Rectangle; Supplier 1: Digi-Key; Manufacturer Part Number: SPU0410HR5H-1; RoHS: RoHS Compliant; Category: Audio Products; Stock 1: 15214; Pricing 1: 1=0.99, 10=0.857, 25=0.6884, 50=0.612, 100=0.5355, 250=0.52024, 500=0.50494, 1000=0.45903 (USD); Packaging: Digi-Reel®; Part Status: Active; Type: MEMS (Silicon); Output Type: Analog; Voltage - Rated: -; Termination: Solder Pads; Size / Dimension: 3.76mm L x 2.95mm W; Height (Max): 1.20mm; Supplier Part Number 1: 423-1411-6-ND
footprint SON246P290X120-4N (SON, 4-Leads, Body 3.76x2.95mm, Pitch 2.46mm, IPC Medium Density)
pins: 1 VDD (power), 2 GND (power), 3 GND (power), 4 OUT (out)

## TouchSENSOR
designator S?, comment Touch Sensor  (no BOM)
footprint TouchSensor_Skin
footprint TouchSensor_Finger
footprint TOUCHSENSOR_PIN
pins: 1 S (in), 2 GND (power)

## VEMD8080
designator D?
VEMD Series 850 nM ±65° Surface Mount Silicon PIN Photodiode; Manufacturer: Vishay Semiconductors; MF: Vishay Semiconductor Opto Division; Wavelength: 850nm; Response Time: 70ns; Max Reverse Voltage (DC): 20V; Dark Current: 10nA; Viewing Angle: 130°; SnapEDA_Link: https://www.snapeda.com/parts/VEMD8080/Vishay%20Semiconductor%20Opto%20Division/view-part/3594083/?ref=snap; Digi-Key_Part_Number: VEMD8080CT-ND; Value: *; Digi-Key_Purchase_URL: https://www.digikey.com/product-detail/en/vishay-vitramon/VEMD8080/VEMD8080CT-ND/8602548?utm_source=snapeda&utm_medium=aggregator&utm_campaign=symbol; Package: SMD-8 Vishay Semiconductor Opto Division; MP: VEMD8080; Supplier 1: Digi-Key; Supplier Part Number 1: VEMD8080CT-ND; Manufacturer Part Number: VEMD8080; RoHS: No; Stock 1: 1849; Pricing 1: 1=2.07000, 10=1.82900, 100=1.06200, 500=0.94400, 1000=0.81125, 2500=0.76700 (USD); Mount: Surface Mount; Case/Package: SMD/SMT; Min Operating Temperature: -40°C; Max Operating Temperature: 85°C; Packaging: Cut Tape; Diode Type: PIN; ComponentLink1URL: https://www.vishay.com/docs/84565/vemd8080.pdf?src-supplier=Digi-Key; ComponentLink1Description: https://www.vishay.com/docs/84565/vemd8080.pdf?src-supplier=Digi-Key
footprint XDCR_VEMD8080
pins: 1 C, 2 A

## VL120628H
designator M?
Vibration Lra Motor 2V Linear 1.; Manufacturer: Vybronics; Supplier: Digi-Key; Supplier Part Number: 1670-VL120628H-ND; Manufacturer Part Number: VL120628H; RoHS: No; Category: Uncategorized; Stock: 818; Pricing: 1=3,24, 5=3,07, 10=2,984, 25=2,8988, 50=2,643, 100=2,3873, 300=2,30203, 500=2,26792, 1000=2,1315 (USD); Supplier 1: Digi-Key; Supplier Part Number 1: 1670-VL120628H-ND
footprint VL120628H
pins: 1 V+, 2 V+
text: M

## VLV041235L
designator M?
Vibration Lra Motor 240HZ 1.0G; Manufacturer: Jinlong Machinery & Electronics; Supplier: Digi-Key; Supplier Part Number: 1670-VLV041235L-ND; Manufacturer Part Number: VLV041235L; RoHS: No; Category: Motors and Drives; Min Operating Temperature: -20°C; Max Operating Temperature: 60°C; Series: -; Termination: Solder
pins: 1 V+, 2 V+
text: M

## Z30C1T8460001
designator MTR  (value not drawn)
SMD VIBRATION MOTOR 3MM LOW PROF; Manufacturer: Jinlong Machinery & Electronics, Inc.; Function: Vibration, ERM; Voltage - Rated: 2.7VDC; RPM: 15000 RPM; Supplier 1: Digi-Key; Manufacturer Part Number: Z30C1T8460001; RoHS: RoHS Compliant; Category: Motors, Solenoids, Driver Boards/Modules; Stock 1: 977; Pricing 1: 1=3.56, 5=3.37, 10=3.276, 25=3.1828, 50=2.902, 100=2.6211, 250=2.52748, 500=2.49002 (USD); Part Status: Active; Type: DC Motor; Motor Type: -; Torque - Rated (oz-in / mNm): -; Power - Rated: -; Encoder Type: -; Size / Dimension: Round - 0.158" Dia (4.00mm); Diameter - Shaft: -; Length - Shaft and Bearing: 0.146" (3.70mm); Mounting Hole Spacing: -; Termination Style: Surface Mount; Features: -; Gear Reduction Ratio: -; Torque - Max Momentary (oz-in / mNm): -; Operating Temperature: -20°C ~ 70°C; Approvals: -; Weight: -; ComponentLink1URL: http://www.vibration-motor.com/products/download/Z30C1T8460001.pdf; ComponentLink1Description: http://www.vibration-motor.com/products/download/Z30C1T8460001.pdf; Supplier Part Number 1: 1670-1031-6-ND
footprint Z30C1T8460001 (SMD VIBRATION MOTOR 3MM LOW PROF)
pins: 1 V+, 2 V+
text: M